# EAGLE library part MCP8063 (library domonetic)
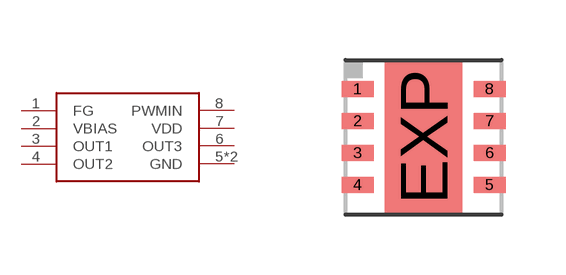
[diagram p14: symbol with the pads of DFN8-4X4; footprint DFN8-4X4]

Designator prefix -

## MCP8063  [DFN8-4X4]
1  FG
2  VBIAS
3  OUT1
4  OUT2
5  GND
6  OUT3
7  VDD
8  PWMIN
EXP  GND

## Footprint DFN8-4X4 (pad centres in mm)
8-Lead Plastic Dual Flat, No Lead Package (MD) 4x4x0.9 mm Body [DFN] Source: http://ww1.microchip.com/downloads/en/DeviceDoc/41211D_.pdf
smd 0.8 x 0.4: 1 -1.65,1.2; 2 -1.65,0.4; 3 -1.65,-0.4; 4 -1.65,-1.2; 5 1.65,-1.2; 6 1.65,-0.4; 7 1.65,0.4; 8 1.65,1.2
smd 1.93 x 3.81: EXP 0,0